# Altium footprint library ACTION_Component.PcbLib: 73 footprints (part 3 of 5)
Each footprint in its own frame and in the unit in brackets; x right, y up, seen from the top. Pads: shape width x height; smd on the part's side, far side on the other; paste and mask are expansions set on the pad; w line width, h text height; cw(c..) or ccw(c..) is an arc to the next point about the centre after c.
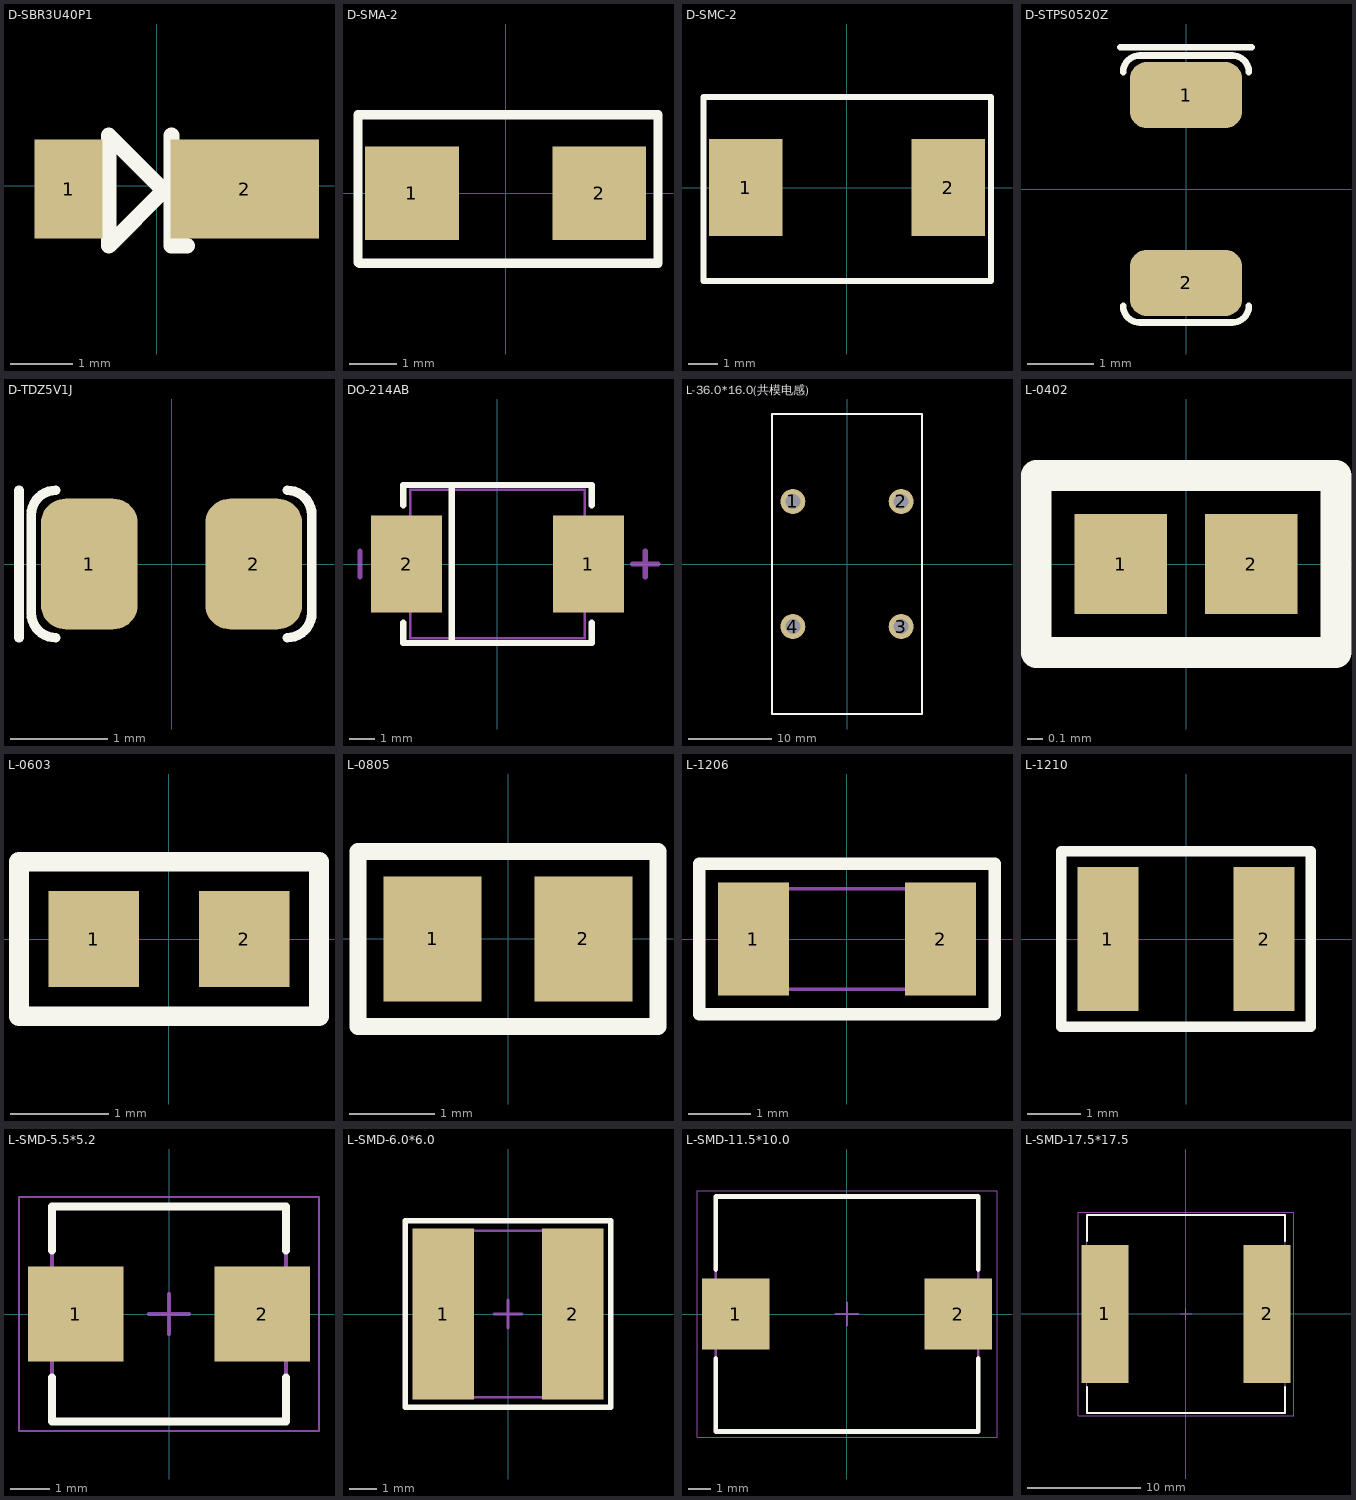
[diagram p2: the footprints below, top view; thin cyan lines are the x and y axes]

## D-SBR3U40P1 [mm]
height 0.5
pads (2):
  rect 1.1x1.6 smd: 1(-1.422,-0.051)
  rect 2.4x1.6 smd: 2(1.422,-0.051)
Top Overlay:
  lines w0.254: 0.241,0.813 0.241,-0.965 0.495,-0.965 ; -0.775,-0.965 -0.775,0.813 0.114,-0.076 -0.775,-0.965
3D body "User Library-POWERDI-123.STEP": height 1.1, standoff 0.1, extent -1.62,-1.016 2.28,0.914

## D-SMA-2 [mm]
pads (2):
  rect 2x2 smd: 1(-2,0) 2(2,0)
Top Overlay:
  lines w0.2: -3.15,-1.473 -3.15,1.676 3.251,1.676 3.251,-1.499 -3.124,-1.499 -3.15,-1.473
3D body "DO214 SMA.STEP": height 2.41, standoff 0.13, extent -2.692,-1.295 2.794,1.499

## D-SMC-2 [mm]
pads (2):
  rect 2.5x3.3 smd: 1(-3.45,0) 2(3.45,0)
Top Overlay:
  lines w0.2: -4.877,-3.175 4.902,-3.175 4.902,3.073 -4.877,3.073 -4.877,-1.6 -4.877,-3.175
3D body "DO214 SMC.STEP": height 2.27, standoff -0.03, extent -3.899,-3.001 4.051,2.899

## D-STPS0520Z [mm] "肖特基二极管"
pads (2):
  rrect50% 1.7x1 smd: 1(0,1.425) 2(0,-1.425)
Top Overlay:
  lines w0.1: -1,2.152 1,2.152 ; -0.954,-1.771 ccw(c-0.7,-1.771) -0.7,-2.025 0.7,-2.025 ccw(c0.7,-1.771) 0.954,-1.771 ; -0.954,1.771 cw(c-0.7,1.771) -0.7,2.025 0.7,2.025 cw(c0.7,1.771) 0.954,1.771

## D-TDZ5V1J [mm]
pads (2):
  rrect50% 1x1.35 smd: 1(-0.85,0) 2(0.85,0)
Top Overlay:
  lines w0.1: -1.577,-0.762 -1.577,0.762 ; -1.196,-0.762 cw(c-1.196,-0.508) -1.45,-0.508 -1.45,0.508 cw(c-1.196,0.508) -1.196,0.762 ; 1.196,-0.762 ccw(c1.196,-0.508) 1.45,-0.508 1.45,0.508 ccw(c1.196,0.508) 1.196,0.762

## DO-214AB [mil]
pads (2):
  rect 110x150 smd: 1(140.49,0) 2(-140.49,0)
Top Overlay:
  lines w10: -145.67,-90.55 -145.67,-122.05 145.67,-122.05 145.67,-90.55 ; -145.67,90.55 -145.67,122.05 145.67,122.05 145.67,90.55 ; -70.87,-122.05 -70.87,122.05
Mechanical 13:
  lines w3.94: -135.04,-114.96 135.04,-114.96 135.04,114.96 -135.04,114.96 -135.04,-114.96
Mechanical 15:
  lines w8: -212.6,-19.68 -212.6,19.69 ; 208.66,0 248.03,0 ; 228.35,-19.68 228.35,19.69
3D body "SW3dPS-DO-214AB SMC.STEP": height 89.47, standoff -1.18, extent -156.5,-116.13 156.5,116.15

## L-36.0*16.0(共模电感) [mm]
pads (4):
  round 3 hole 1.8: 1(-6.5,7.5) 2(6.5,7.5) 3(6.5,-7.5) 4(-6.5,-7.5)
Top Overlay:
  lines w0.254: -9,-18 9,-18 9,18 -9,18 -9,-18
3D body: height 30, standoff 0, extent -9.007,-18.034 9.017,17.983

## L-0402 [mm]
pads (2):
  rect 0.6x0.65 smd mask+0.051: 1(-0.425,0) 2(0.425,0)
Top Overlay:
  lines w0.2: -0.975,-0.575 -0.975,0.575 0.975,0.575 0.975,-0.575 -0.975,-0.575
3D body "L0402.STEP": height 0.36, standoff -0.01, extent -0.512,-0.262 0.538,0.263

## L-0603 [mm]
pads (2):
  rect 0.93x0.98 smd: 1(-0.77,0) 2(0.77,0)
Top Overlay:
  lines w0.2: -1.535,-0.79 1.535,-0.79 1.535,0.79 -1.535,0.79 -1.535,-0.79
3D body "L0603.STEP": height 0.46, standoff -0.01, extent -0.825,-0.412 0.825,0.413

## L-0805 [mm]
pads (2):
  rect 1.16x1.47 smd: 1(-0.89,0) 2(0.89,0)
Top Overlay:
  lines w0.2: -1.77,-1.035 -1.77,1.035 1.77,1.035 1.77,-1.035 -1.77,-1.035
3D body "L0805.STEP": height 0.6, standoff -0.02, extent -1.022,-0.637 1.028,0.638

## L-1206 [mm]
pads (2):
  rect 1.13x1.8 smd: 1(-1.49,0) 2(1.49,0)
Top Overlay:
  lines w0.2: -2.355,-1.2 2.355,-1.2 2.355,1.2 -2.355,1.2 -2.355,-1.2
Mechanical 13:
  lines w0.05: -1.6,-0.8 1.6,-0.8 1.6,0.8 -1.6,0.8 -1.6,-0.8

## L-1210 [mm]
pads (2):
  rect 1.16x2.72 smd: 1(-1.475,0) 2(1.475,0)
Top Overlay:
  lines w0.2: 2.337,-1.66 -2.355,-1.66 -2.355,1.66 2.337,1.66 ; 2.355,-1.66 2.355,1.66
3D body "User Library-R_1210.STEP": height 0.6, standoff 0, extent -1.6,-1.25 1.6,1.25

## L-SMD-5.5*5.2 [mm]
height 3
pads (2):
  rect 2.4x2.4 smd: 1(-2.35,0) 2(2.35,0)
Top Overlay:
  lines w0.2: -2.95,-1.6 -2.95,-2.7 2.95,-2.7 2.95,-1.6 ; -2.95,1.6 -2.95,2.7 2.95,2.7 2.95,1.6
Mechanical 13:
  lines w0.1: -2.95,-2.7 2.95,-2.7 2.95,2.7 -2.95,2.7 -2.95,-2.7
Mechanical 15:
  lines w0.05: -3.775,-2.95 3.775,-2.95 3.775,2.95 -3.775,2.95 -3.775,-2.95
  lines w0.1: -0.5,0 0.5,0 ; 0,-0.5 0,0.5
3D body: height 3, standoff 0, extent -2.95,-2.7 2.95,2.7

## L-SMD-6.0*6.0 [mm]
height 4.5
pads (2):
  rect 2.2x6.14 smd: 1(-2.33,0) 2(2.33,0)
Top Overlay:
  lines w0.2: -3.7,-3.35 3.7,-3.35 3.7,3.35 -3.7,3.35 -3.7,-3.35
Mechanical 13:
  lines w0.1: -3,-3 -3,3 3,3 3,-3 -3,-3
Mechanical 15:
  lines w0.05: -3.7,-3.35 -3.7,3.35 3.7,3.35 3.7,-3.35 -3.7,-3.35
  lines w0.1: -0.5,0 0.5,0 ; 0,-0.5 0,0.5
3D body: height 4.5, standoff 0, extent -1.45,-3 1.45,3
3D body: height 4.5, standoff 0, extent -3,-3 -1.45,3
3D body: height 4.5, standoff 0, extent 1.45,-3 3,3

## L-SMD-11.5*10.0 [mm]
height 5
pads (2):
  rect 2.95x3.1 smd: 1(-4.875,0) 2(4.875,0)
Top Overlay:
  lines w0.2: -5.75,-1.95 -5.75,-5.15 5.75,-5.15 5.75,-1.95 ; -5.75,1.95 -5.75,5.15 5.75,5.15 5.75,1.95
Mechanical 13:
  lines w0.1: -5.75,-5.15 -5.75,5.15 5.75,5.15 5.75,-5.15 -5.75,-5.15
Mechanical 15:
  lines w0.05: -6.575,-5.4 -6.575,5.4 6.575,5.4 6.575,-5.4 -6.575,-5.4
  lines w0.1: -0.5,0 0.5,0 ; 0,-0.5 0,0.5
3D body: height 5, standoff 0, extent -5.75,-5.15 5.75,5.15

## L-SMD-17.5*17.5 [mm]
height 7
pads (2):
  rect 4.15x12.15 smd: 1(-7.175,0) 2(7.175,0)
Top Overlay:
  lines w0.2: -8.75,-6.475 -8.75,-8.75 8.75,-8.75 8.75,-6.475 ; -8.75,6.475 -8.75,8.75 8.75,8.75 8.75,6.475
Mechanical 13:
  lines w0.1: -8.75,-8.75 8.75,-8.75 8.75,8.75 -8.75,8.75 -8.75,-8.75
Mechanical 15:
  lines w0.05: -9.5,-9 9.5,-9 9.5,9 -9.5,9 -9.5,-9
  lines w0.1: -0.5,0 0.5,0 ; 0,-0.5 0,0.5
3D body: height 7, standoff 0, extent -8.75,-8.75 8.75,8.75